# Altium footprint library PcbLib1.PcbLib: 58 footprints (part 1 of 4)
Each footprint in its own frame and in the unit in brackets; x right, y up, seen from the top. Pads: shape width x height; smd on the part's side, far side on the other; paste and mask are expansions set on the pad; w line width, h text height; cw(c..) or ccw(c..) is an arc to the next point about the centre after c.
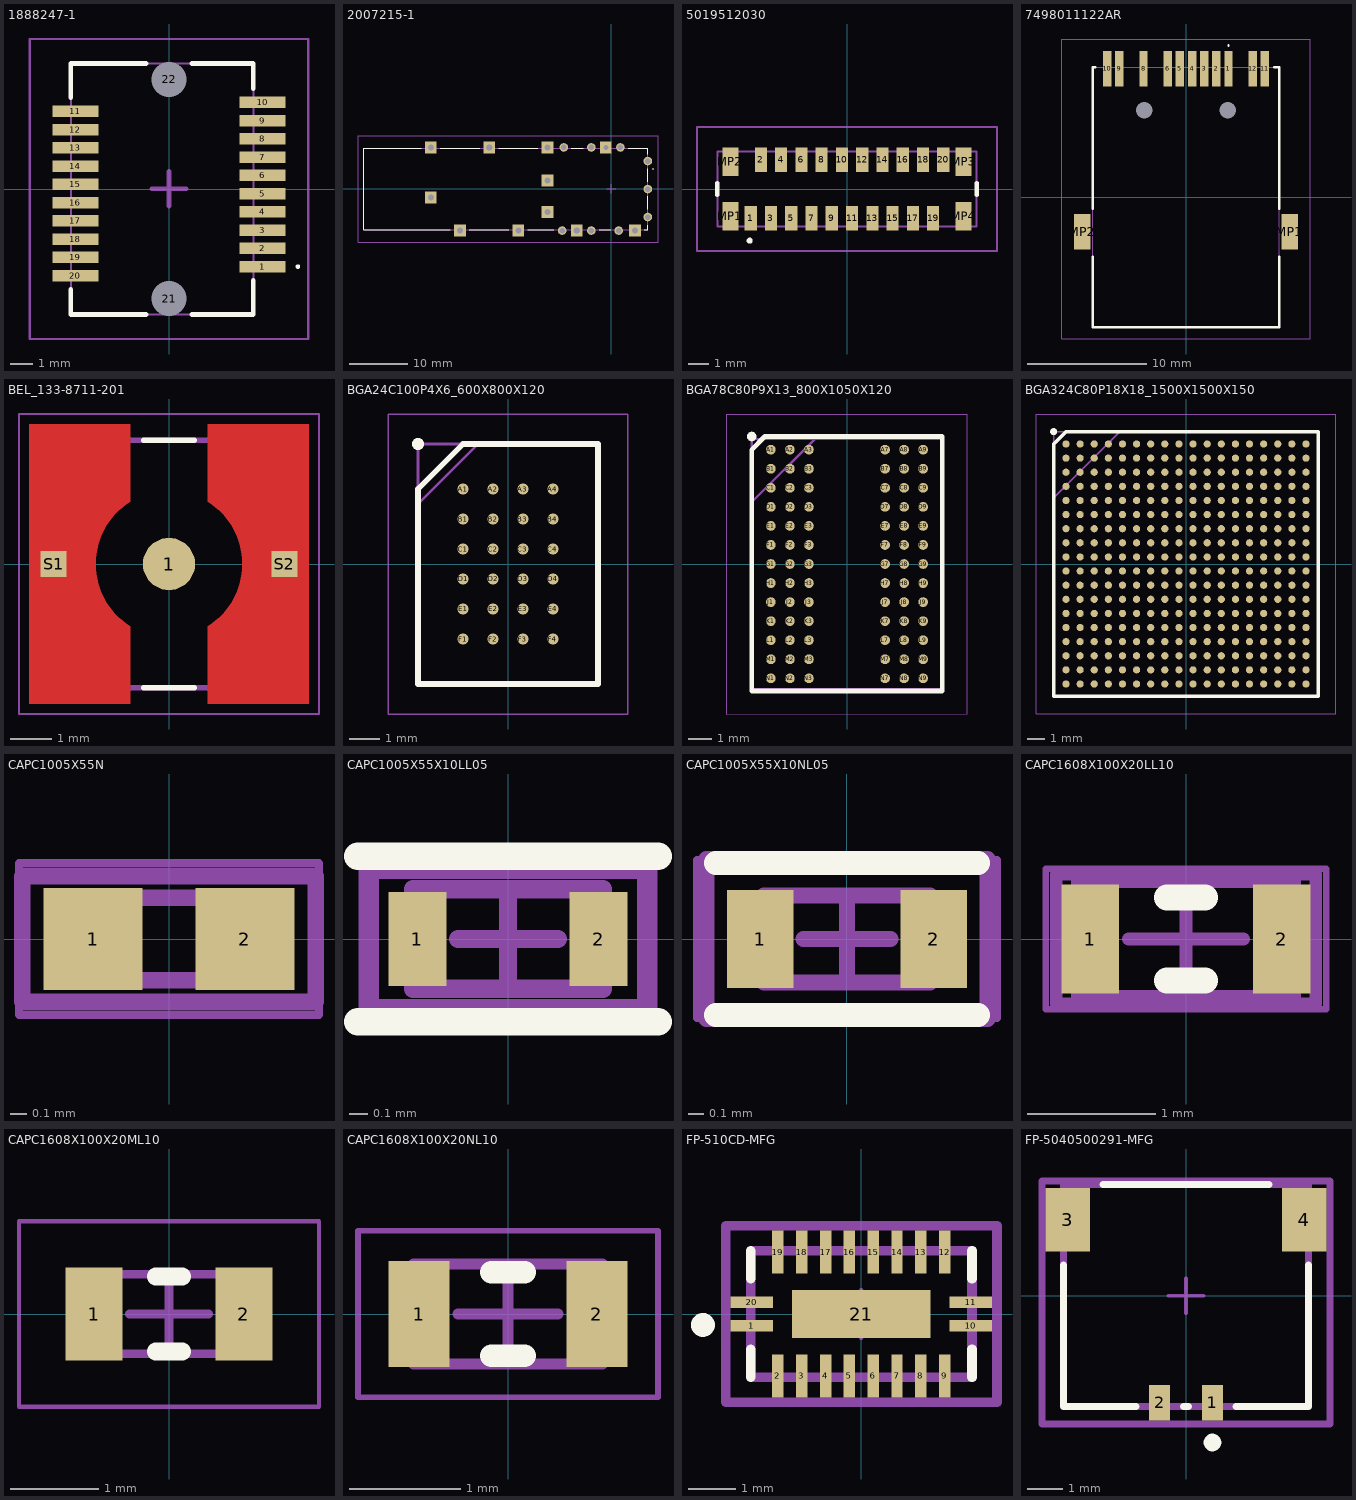
[diagram p0: the footprints below, top view; thin cyan lines are the x and y axes]

## 1888247-1 [mm]
pads (22):
  rect 2x0.5 smd: 1(4.1,-3.4) 2(4.1,-2.6) 3(4.1,-1.8) 4(4.1,-1) 5(4.1,-0.2) 6(4.1,0.6) 7(4.1,1.4) 8(4.1,2.2) 9(4.1,3) 10(4.1,3.8) 11(-4.1,3.4) 12(-4.1,2.6) 13(-4.1,1.8) 14(-4.1,1) 15(-4.1,0.2) 16(-4.1,-0.6) 17(-4.1,-1.4) 18(-4.1,-2.2) 19(-4.1,-3) 20(-4.1,-3.8)
  round 0.775 hole 1.55 unplated: 21(0,-4.8) 22(0,4.8)
Top Overlay:
  lines w0.1: 5.6,-3.4 cw(c5.65,-3.4) 5.7,-3.4 cw(c5.65,-3.4) 5.6,-3.4
  lines w0.2: -4.3,-4.4 -4.3,-5.5 -1,-5.5 ; -4.3,4 -4.3,5.5 -1,5.5 ; 1,-5.5 3.7,-5.5 3.7,-4 ; 1,5.5 3.7,5.5 3.7,4.4
Mechanical 13:
  lines w0.1: -4.3,-5.5 -4.3,5.5 3.7,5.5 3.7,-5.5 -4.3,-5.5
Mechanical 15:
  lines w0.1: -6.1,-6.575 -6.1,6.575 6.1,6.575 6.1,-6.575 -6.1,-6.575
Top Component Center:
  lines w0.2: -0.762,0.018 0,0.018 0.762,0.018 ; 0,-0.744 0,0.78
3D body "1888247-1.stp": height 5.19, standoff -0.81, extent -4.47,-5.5 4.53,5.5

## 2007215-1 [mm]
pads (20):
  rect 2x2 hole 1.05: MH1(-30.9,7.112) MH2(-30.9,-1.468) MH3(-25.9,-7.138) MH4(-15.9,-7.138) MH6(-5.9,-7.138) MH9(4.1,-7.138) MH17(-10.9,7.112) MH18(-20.9,7.112) MH19(-10.9,1.432) MH20(-10.9,-3.968)
  round 1.478 hole 0.95: MH5(-8.4,-7.138) MH7(-3.4,-7.138) MH8(1.3,-7.138) MH10(6.3,-4.818) MH11(6.3,-0.018) MH12(6.3,4.782) MH13(1.6,7.112) MH15(-3.4,7.112) MH16(-8.1,7.112)
  rect 2x2 hole 0.85: MH14(-0.9,7.112)
Top Overlay:
  lines w0.2: -42.4,-7.013 -27.55,-7.013 -42.4,-7.013 ; -42.4,-7.013 -42.4,6.987 ; -42.4,-7.013 -42.4,6.987 ; -42.4,6.987 -32.55,6.987 -42.4,6.987 ; 6.3,-7.013 5.7,-7.013 6.3,-7.013 ; 6.3,-7.013 6.3,-6.263 6.3,-7.013 ; 6.3,6.987 2.95,6.987 6.3,6.987 ; 6.3,6.987 6.3,5.987 6.3,6.987 ; 7.15,3.382 cw(c7.2,3.382) 7.25,3.382 ; 7.15,3.382 ccw(c7.2,3.382) 7.25,3.382 ; 7.15,3.382 cw(c7.2,3.382) 7.25,3.382 ; -29.3,6.987 -22.55,6.987 -29.3,6.987 ; -24.3,-7.013 -17.55,-7.013 -24.3,-7.013 ; -19.3,6.987 -12.55,6.987 -19.3,6.987 ; -14.3,-7.013 -9.8,-7.013 -14.3,-7.013 ; -6.8,6.987 -4.8,6.987 -6.8,6.987 ; -2.05,-7.013 -0.05,-7.013 -2.05,-7.013 ; 6.3,-3.513 6.3,-1.263 6.3,-3.513 ; 6.3,1.237 6.3,3.487 6.3,1.237
Mechanical 13:
  lines w0.1: -42.4,-7.013 6.3,-7.013 6.3,6.987 -42.4,6.987 -42.4,-7.013
Mechanical 15:
  lines w0.1: -43.4,-9.138 8.039,-9.138 8.039,9.112 -43.4,9.112 -43.4,-9.138
Top Component Center:
  lines w0.2: -0.762,0 0,0 0.762,0 ; 0,-0.762 0,0.762
3D body "2007215-1.stp": height 10.71, standoff -3.34, extent -42.5,-8.167 6.3,8.131

## 5019512030 [mm]
pads (24):
  rect 0.6x1.2 smd: 1(-4.75,-1.45) 2(-4.25,1.45) 3(-3.75,-1.45) 4(-3.25,1.45) 5(-2.75,-1.45) 6(-2.25,1.45) 7(-1.75,-1.45) 8(-1.25,1.45) 9(-0.75,-1.45) 10(-0.25,1.45) 11(0.25,-1.45) 12(0.75,1.45) 13(1.25,-1.45) 14(1.75,1.45) 15(2.25,-1.45) 16(2.75,1.45) 17(3.25,-1.45) 18(3.75,1.45) 19(4.25,-1.45) 20(4.75,1.45)
  rect 0.8x1.4 smd: MP1(-5.75,-1.35) MP2(-5.75,1.35) MP3(5.75,1.35) MP4(5.75,-1.35)
Top Overlay:
  lines w0.2: -6.4,-0.3 -6.4,0.3 ; 6.4,-0.3 6.4,0.3 ; -4.8,-2.6 ccw(c-4.8,-2.55) -4.8,-2.5 ; -4.8,-2.6 cw(c-4.8,-2.55) -4.8,-2.5 ; -4.8,-2.6 ccw(c-4.8,-2.55) -4.8,-2.5
Mechanical 13:
  lines w0.1: -6.4,-1.85 -6.4,1.85 6.4,1.85 6.4,-1.85 -6.4,-1.85
Mechanical 15:
  lines w0.1: -7.4,-3.05 -7.4,3.05 7.4,3.05 7.4,-3.05 -7.4,-3.05
3D body "5019512030_0.SLDPRT": height 4.6, standoff 0, extent -6.4,-1.85 6.4,2.249

## 7498011122AR [mm]
pads (15):
  rect 0.71x3 smd: 1(3.57,10.79) 2(2.55,10.79) 3(1.53,10.79) 4(0.51,10.79) 5(-0.51,10.79) 6(-1.53,10.79) 8(-3.57,10.79) 9(-5.61,10.79) 10(-6.63,10.79) 11(6.63,10.79) 12(5.61,10.79)
  round 0.7 hole 1.4 unplated: MH1(3.5,7.29) MH2(-3.5,7.29)
  rect 1.4x3 smd: MP1(8.725,-2.91) MP2(-8.725,-2.91)
Top Overlay:
  lines w0.1: 3.57,12.7 ccw(c3.57,12.75) 3.57,12.8 ; 3.57,12.7 cw(c3.57,12.75) 3.57,12.8 ; 3.57,12.7 ccw(c3.57,12.75) 3.57,12.8
  lines w0.2: -7.825,-5 -7.825,-10.92 7.825,-10.92 7.825,-5 ; -7.825,-1 -7.825,10.92 -7.6,10.92 ; 7.4,10.92 7.825,10.92 7.825,-1
Top Assembly:
  lines w0.1: -7.825,-10.92 7.825,-10.92 7.825,10.92 -7.825,10.92 -7.825,-10.92
  text ".Designator" at -1.905,6.853 h2
Mechanical 15:
  lines w0.1: -10.425,-11.92 10.425,-11.92 10.425,13.29 -10.425,13.29 -10.425,-11.92
3D body "7498011122AR.stp": height 10.15, standoff -3.15, extent -9.075,-10.92 9.075,11.155

## BEL_133-8711-201 [mil]
pads (3):
  round 50 smd: 1(0,0)
  rect 25x25 smd paste-39.37 mask+0: S1(-110,0) S2(110,0)
Top Layer:
  region: -37,59.4 -41.06,56.68 -44.78,53.79 -48.31,50.65 -51.62,47.28 -54.69,43.7 -57.51,39.92 -60.07,35.95 -62.36,31.82 -64.36,27.55 -66.07,23.15 -67.48,18.65 -68.59,14.06 -69.38,9.41 -69.86,4.72 -70.02,0 -69.86,-4.72 -69.38,-9.41 -68.59,-14.06 -67.48,-18.65 -66.07,-23.15 -64.36,-27.55 -62.36,-31.82 -60.07,-35.95 -57.51,-39.92 -54.69,-43.7 -51.62,-47.28 -48.31,-50.65 -44.78,-53.79 -41.06,-56.68 -37,-59.4 -37,-133 -133,-133 -133,133 -37,133
  region: 133,-133 37,-133 37,-59.4 41.06,-56.68 44.78,-53.79 48.31,-50.65 51.62,-47.28 54.69,-43.7 57.51,-39.92 60.07,-35.95 62.36,-31.82 64.36,-27.55 66.07,-23.15 67.48,-18.65 68.59,-14.06 69.38,-9.41 69.86,-4.72 70.02,0 69.86,4.72 69.38,9.41 68.59,14.06 67.48,18.65 66.07,23.15 64.36,27.55 62.36,31.82 60.07,35.95 57.51,39.92 54.69,43.7 51.62,47.28 48.31,50.65 44.78,53.79 41.06,56.68 37,59.4 37,133 133,133
Top Overlay:
  lines w5: -24,-118 24,-118 ; -24,118 24,118
Top Paste:
  region: -59.5,59.5 -120.5,59.5 -120.5,120.5 -59.5,120.5
  region: 120.5,59.5 59.5,59.5 59.5,120.5 120.5,120.5
  region: 120.5,-120.5 59.5,-120.5 59.5,-59.5 120.5,-59.5
  region: -59.5,-120.5 -120.5,-120.5 -120.5,-59.5 -59.5,-59.5
Top Solder:
  region: -33,57.25 -36.99,54.76 -40.72,52.05 -44.25,49.09 -47.57,45.88 -50.65,42.46 -53.49,38.82 -56.07,35 -58.38,31.01 -60.4,26.87 -62.12,22.59 -63.55,18.21 -64.66,13.73 -65.47,9.19 -65.95,4.61 -66.11,0 -65.95,-4.61 -65.47,-9.19 -64.66,-13.73 -63.55,-18.21 -62.12,-22.59 -60.4,-26.87 -58.38,-31.01 -56.07,-35 -53.49,-38.82 -50.65,-42.46 -47.57,-45.88 -44.25,-49.09 -40.72,-52.05 -36.99,-54.76 -33,-57.25 -33.06,-136.94 -136.94,-136.94 -136.94,136.94 -33.06,136.94
  region: 136.94,-136.94 33.06,-136.94 33,-57.25 36.99,-54.76 40.72,-52.05 44.25,-49.09 47.57,-45.88 50.65,-42.46 53.49,-38.82 56.07,-35 58.38,-31.01 60.4,-26.87 62.12,-22.59 63.55,-18.21 64.66,-13.73 65.47,-9.19 65.95,-4.61 66.11,0 65.95,4.61 65.47,9.19 64.66,13.73 63.55,18.21 62.12,22.59 60.4,26.87 58.38,31.01 56.07,35 53.49,38.82 50.65,42.46 47.57,45.88 44.25,49.09 40.72,52.05 36.99,54.76 33,57.25 33.06,136.94 136.94,136.94
Mechanical 13:
  lines w5: -118,-118 118,-118 118,118 -118,118 -118,-118
Mechanical 15:
  lines w1.97: -143,-143 143,-143 143,143 -143,143 -143,-143
3D body "step_temp.STEP": height 244.09, standoff 0, extent -118.11,-118.11 118.11,118.11

## BGA24C100P4X6_600X800X120 [mm]
pads (24):
  round 0.37 smd: A1(-1.5,2.5) A2(-0.5,2.5) A3(0.5,2.5) A4(1.5,2.5) B1(-1.5,1.5) B2(-0.5,1.5) B3(0.5,1.5) B4(1.5,1.5) C1(-1.5,0.5) C2(-0.5,0.5) C3(0.5,0.5) C4(1.5,0.5) D1(-1.5,-0.5) D2(-0.5,-0.5) D3(0.5,-0.5) D4(1.5,-0.5) E1(-1.5,-1.5) E2(-0.5,-1.5) E3(0.5,-1.5) E4(1.5,-1.5) F1(-1.5,-2.5) F2(-0.5,-2.5) F3(0.5,-2.5) F4(1.5,-2.5)
Top Overlay:
  circle w0.2: c-3,4 r0.1
  lines w0.2: -3,-4 -3,2.5 -1.5,4 3,4 3,-4 -3,-4
Top Assembly:
  lines w0.1: -3,2 -1,4 ; -3,-4 3,-4 3,4 -3,4 -3,-4
  text ".Designator" at -1.905,-0.513 h2
Mechanical 15:
  lines w0.05: -4,-5 4,-5 4,5 -4,5 -4,-5
3D body "S25FL256SAGBHI200.stp": height 1.2, standoff 0, extent -3,-4 3,4

## BGA78C80P9X13_800X1050X120 [mm]
pads (78):
  round 0.41 smd: A1(-3.2,4.8) A2(-2.4,4.8) A3(-1.6,4.8) A7(1.6,4.8) A8(2.4,4.8) A9(3.2,4.8) B1(-3.2,4) B2(-2.4,4) B3(-1.6,4) B7(1.6,4) B8(2.4,4) B9(3.2,4) C1(-3.2,3.2) C2(-2.4,3.2) C3(-1.6,3.2) C7(1.6,3.2) C8(2.4,3.2) C9(3.2,3.2) D1(-3.2,2.4) D2(-2.4,2.4) D3(-1.6,2.4) D7(1.6,2.4) D8(2.4,2.4) D9(3.2,2.4) E1(-3.2,1.6) E2(-2.4,1.6) E3(-1.6,1.6) E7(1.6,1.6) E8(2.4,1.6) E9(3.2,1.6) F1(-3.2,0.8) F2(-2.4,0.8) F3(-1.6,0.8) F7(1.6,0.8) F8(2.4,0.8) F9(3.2,0.8) G1(-3.2,0) G2(-2.4,0) G3(-1.6,0) G7(1.6,0) G8(2.4,0) G9(3.2,0) H1(-3.2,-0.8) H2(-2.4,-0.8) H3(-1.6,-0.8) H7(1.6,-0.8) H8(2.4,-0.8) H9(3.2,-0.8) J1(-3.2,-1.6) J2(-2.4,-1.6) J3(-1.6,-1.6) J7(1.6,-1.6) J8(2.4,-1.6) J9(3.2,-1.6) K1(-3.2,-2.4) K2(-2.4,-2.4) K3(-1.6,-2.4) K7(1.6,-2.4) K8(2.4,-2.4) K9(3.2,-2.4) L1(-3.2,-3.2) L2(-2.4,-3.2) L3(-1.6,-3.2) L7(1.6,-3.2) L8(2.4,-3.2) L9(3.2,-3.2) M1(-3.2,-4) M2(-2.4,-4) M3(-1.6,-4) M7(1.6,-4) M8(2.4,-4) M9(3.2,-4) N1(-3.2,-4.8) N2(-2.4,-4.8) N3(-1.6,-4.8) N7(1.6,-4.8) N8(2.4,-4.8) N9(3.2,-4.8)
Top Overlay:
  circle w0.2: c-4,5.355 r0.1
  lines w0.2: 4,5.334 4,-5.334 -4,-5.334 -4,4.8 -3.445,5.355 4,5.355
Top Assembly:
  lines w0.1: -4,2.6 -1.35,5.25 ; -4,-5.25 4,-5.25 4,5.25 -4,5.25 -4,-5.25
  text ".Designator" at -2.54,-0.005 h2
Mechanical 15:
  lines w0.05: -5.05,-6.3 5.05,-6.3 5.05,6.3 -5.05,6.3 -5.05,-6.3
3D body "IS43TR85120BL-125KBLI-TR.stp": height 1.2, standoff 0, extent -4,-5.25 4,5.25

## BGA324C80P18X18_1500X1500X150 [mm]
pads (324):
  round 0.41 smd: A1(-6.8,6.8) A2(-6,6.8) A3(-5.2,6.8) A4(-4.4,6.8) A5(-3.6,6.8) A6(-2.8,6.8) A7(-2,6.8) A8(-1.2,6.8) A9(-0.4,6.8) A10(0.4,6.8) A11(1.2,6.8) A12(2,6.8) A13(2.8,6.8) A14(3.6,6.8) A15(4.4,6.8) A16(5.2,6.8) A17(6,6.8) A18(6.8,6.8) B1(-6.8,6) B2(-6,6) B3(-5.2,6) B4(-4.4,6) B5(-3.6,6) B6(-2.8,6) B7(-2,6) B8(-1.2,6) B9(-0.4,6) B10(0.4,6) B11(1.2,6) B12(2,6) B13(2.8,6) B14(3.6,6) B15(4.4,6) B16(5.2,6) B17(6,6) B18(6.8,6) C1(-6.8,5.2) C2(-6,5.2) C3(-5.2,5.2) C4(-4.4,5.2) C5(-3.6,5.2) C6(-2.8,5.2) C7(-2,5.2) C8(-1.2,5.2) C9(-0.4,5.2) C10(0.4,5.2) C11(1.2,5.2) C12(2,5.2) C13(2.8,5.2) C14(3.6,5.2) C15(4.4,5.2) C16(5.2,5.2) C17(6,5.2) C18(6.8,5.2) D1(-6.8,4.4) D2(-6,4.4) D3(-5.2,4.4) D4(-4.4,4.4) D5(-3.6,4.4) D6(-2.8,4.4) D7(-2,4.4) D8(-1.2,4.4) D9(-0.4,4.4) D10(0.4,4.4) D11(1.2,4.4) D12(2,4.4) D13(2.8,4.4) D14(3.6,4.4) D15(4.4,4.4) D16(5.2,4.4) D17(6,4.4) D18(6.8,4.4) E1(-6.8,3.6) E2(-6,3.6) E3(-5.2,3.6) E4(-4.4,3.6) E5(-3.6,3.6) E6(-2.8,3.6) E7(-2,3.6) E8(-1.2,3.6) E9(-0.4,3.6) E10(0.4,3.6) E11(1.2,3.6) E12(2,3.6) E13(2.8,3.6) E14(3.6,3.6) E15(4.4,3.6) E16(5.2,3.6) E17(6,3.6) E18(6.8,3.6) F1(-6.8,2.8) F2(-6,2.8) F3(-5.2,2.8) F4(-4.4,2.8) F5(-3.6,2.8) F6(-2.8,2.8) F7(-2,2.8) F8(-1.2,2.8) F9(-0.4,2.8) F10(0.4,2.8) F11(1.2,2.8) F12(2,2.8) F13(2.8,2.8) F14(3.6,2.8) F15(4.4,2.8) F16(5.2,2.8) F17(6,2.8) F18(6.8,2.8) G1(-6.8,2) G2(-6,2) G3(-5.2,2) G4(-4.4,2) G5(-3.6,2) G6(-2.8,2) G7(-2,2) G8(-1.2,2) G9(-0.4,2) G10(0.4,2) G11(1.2,2) G12(2,2) G13(2.8,2) G14(3.6,2) G15(4.4,2) G16(5.2,2) G17(6,2) G18(6.8,2) H1(-6.8,1.2) H2(-6,1.2) H3(-5.2,1.2) H4(-4.4,1.2) H5(-3.6,1.2) H6(-2.8,1.2) H7(-2,1.2) H8(-1.2,1.2) H9(-0.4,1.2) H10(0.4,1.2) H11(1.2,1.2) H12(2,1.2) H13(2.8,1.2) H14(3.6,1.2) H15(4.4,1.2) H16(5.2,1.2) H17(6,1.2) H18(6.8,1.2) J1(-6.8,0.4) J2(-6,0.4) J3(-5.2,0.4) J4(-4.4,0.4) J5(-3.6,0.4) J6(-2.8,0.4) J7(-2,0.4) J8(-1.2,0.4) J9(-0.4,0.4) J10(0.4,0.4) J11(1.2,0.4) J12(2,0.4) J13(2.8,0.4) J14(3.6,0.4) J15(4.4,0.4) J16(5.2,0.4) J17(6,0.4) J18(6.8,0.4) K1(-6.8,-0.4) K2(-6,-0.4) K3(-5.2,-0.4) K4(-4.4,-0.4) K5(-3.6,-0.4) K6(-2.8,-0.4) K7(-2,-0.4) K8(-1.2,-0.4) K9(-0.4,-0.4) K10(0.4,-0.4) K11(1.2,-0.4) K12(2,-0.4) K13(2.8,-0.4) K14(3.6,-0.4) K15(4.4,-0.4) K16(5.2,-0.4) K17(6,-0.4) K18(6.8,-0.4) L1(-6.8,-1.2) L2(-6,-1.2) L3(-5.2,-1.2) L4(-4.4,-1.2) L5(-3.6,-1.2) L6(-2.8,-1.2) L7(-2,-1.2) L8(-1.2,-1.2) L9(-0.4,-1.2) L10(0.4,-1.2) L11(1.2,-1.2) L12(2,-1.2) L13(2.8,-1.2) L14(3.6,-1.2) L15(4.4,-1.2) L16(5.2,-1.2) L17(6,-1.2) L18(6.8,-1.2) M1(-6.8,-2) M2(-6,-2) M3(-5.2,-2) M4(-4.4,-2) M5(-3.6,-2) M6(-2.8,-2) M7(-2,-2) M8(-1.2,-2) M9(-0.4,-2) M10(0.4,-2) M11(1.2,-2) M12(2,-2) M13(2.8,-2) M14(3.6,-2) M15(4.4,-2) M16(5.2,-2) M17(6,-2) M18(6.8,-2) N1(-6.8,-2.8) N2(-6,-2.8) N3(-5.2,-2.8) N4(-4.4,-2.8) N5(-3.6,-2.8) N6(-2.8,-2.8) N7(-2,-2.8) N8(-1.2,-2.8) N9(-0.4,-2.8) N10(0.4,-2.8) N11(1.2,-2.8) N12(2,-2.8) N13(2.8,-2.8) N14(3.6,-2.8) N15(4.4,-2.8) N16(5.2,-2.8) N17(6,-2.8) N18(6.8,-2.8) P1(-6.8,-3.6) P2(-6,-3.6) P3(-5.2,-3.6) P4(-4.4,-3.6) P5(-3.6,-3.6) P6(-2.8,-3.6) P7(-2,-3.6) P8(-1.2,-3.6) P9(-0.4,-3.6) P10(0.4,-3.6) P11(1.2,-3.6) P12(2,-3.6) P13(2.8,-3.6) P14(3.6,-3.6) P15(4.4,-3.6) P16(5.2,-3.6) P17(6,-3.6) P18(6.8,-3.6) R1(-6.8,-4.4) R2(-6,-4.4) R3(-5.2,-4.4) R4(-4.4,-4.4) R5(-3.6,-4.4) R6(-2.8,-4.4) R7(-2,-4.4) R8(-1.2,-4.4) R9(-0.4,-4.4) R10(0.4,-4.4) R11(1.2,-4.4) R12(2,-4.4) R13(2.8,-4.4) R14(3.6,-4.4) R15(4.4,-4.4) R16(5.2,-4.4) R17(6,-4.4) R18(6.8,-4.4) T1(-6.8,-5.2) T2(-6,-5.2) T3(-5.2,-5.2) T4(-4.4,-5.2) T5(-3.6,-5.2) T6(-2.8,-5.2) T7(-2,-5.2) T8(-1.2,-5.2) T9(-0.4,-5.2) T10(0.4,-5.2) T11(1.2,-5.2) T12(2,-5.2) T13(2.8,-5.2) T14(3.6,-5.2) T15(4.4,-5.2) T16(5.2,-5.2) T17(6,-5.2) T18(6.8,-5.2) U1(-6.8,-6) U2(-6,-6) U3(-5.2,-6) U4(-4.4,-6) U5(-3.6,-6) U6(-2.8,-6) U7(-2,-6) U8(-1.2,-6) U9(-0.4,-6) U10(0.4,-6) U11(1.2,-6) U12(2,-6) U13(2.8,-6) U14(3.6,-6) U15(4.4,-6) U16(5.2,-6) U17(6,-6) U18(6.8,-6) V1(-6.8,-6.8) V2(-6,-6.8) V3(-5.2,-6.8) V4(-4.4,-6.8) V5(-3.6,-6.8) V6(-2.8,-6.8) V7(-2,-6.8) V8(-1.2,-6.8) V9(-0.4,-6.8) V10(0.4,-6.8) V11(1.2,-6.8) V12(2,-6.8) V13(2.8,-6.8) V14(3.6,-6.8) V15(4.4,-6.8) V16(5.2,-6.8) V17(6,-6.8) V18(6.8,-6.8)
Top Overlay:
  circle w0.2: c-7.5,7.5 r0.1
  lines w0.2: -7.5,-7.5 7.5,-7.5 7.5,7.5 -6.8,7.5 -7.5,6.8 -7.5,-7.5
Top Assembly:
  lines w0.1: -7.5,3.75 -3.75,7.5 ; -7.5,-7.5 -7.5,7.5 7.5,7.5 7.5,-7.5 -7.5,-7.5
  text ".Designator" at -2.159,-0.005 h2
Mechanical 15:
  lines w0.05: -8.5,-8.5 8.5,-8.5 8.5,8.5 -8.5,8.5 -8.5,-8.5
3D body "XC7A35T-2CSG324C.stp": height 1.5, standoff 0, extent -7.5,-7.5 7.5,7.5

## CAPC1005X55N [mm]
pads (2):
  rect 0.6x0.62 smd: 1(-0.46,0) 2(0.46,0)
Top Assembly:
  lines w0.1: -0.889,-0.381 0.889,-0.381 0.889,0.381 -0.889,0.381 -0.889,-0.381
  text ".Designator" at -0.762,-0.25 h0.7
Mechanical 13:
  lines w0.1: -0.5,-0.25 0.5,-0.25 0.5,0.25 -0.5,0.25 -0.5,-0.25
Mechanical 15:
  lines w0.05: -0.91,-0.46 0.91,-0.46 0.91,0.46 -0.91,0.46 -0.91,-0.46
3D body "CC0402JRNPO9BN101.stp": height 0.55, standoff 0, extent -0.5,-0.25 0.5,0.25

## CAPC1005X55X10LL05 [mm] "Chip Capacitor, 2-Leads, Body 1.05x0.55mm, IPC High Density"
height 0.55
pads (2):
  rect 0.32x0.52 smd: 1(-0.5,0) 2(0.5,0)
Top Overlay:
  lines w0.152: -0.829,-0.457 0.829,-0.457 ; -0.829,0.457 0.829,0.457
Top Assembly:
  lines w0.1: -0.762,-0.381 0.762,-0.381 0.762,0.381 -0.762,0.381 -0.762,-0.381
  text ".Designator" at -0.635,-0.25 h0.7
Mechanical 13:
  lines w0.1: -0.525,-0.275 0.525,-0.275 0.525,0.275 -0.525,0.275 -0.525,-0.275
Mechanical 15:
  lines w0.05: -0.8,-0.4 0.8,-0.4 0.8,0.4 -0.8,0.4 -0.8,-0.4
  lines w0.1: -0.275,0 0.275,0 ; 0,-0.275 0,0.275
3D body "CAPC1005X06L.step": height 0.55, standoff 0, extent -0.525,-0.275 0.525,0.275

## CAPC1005X55X10NL05 [mm] "Chip Capacitor, 2-Leads, Body 1.05x0.55mm, IPC Medium Density"
height 0.55
pads (2):
  rect 0.42x0.62 smd: 1(-0.55,0) 2(0.55,0)
Top Overlay:
  lines w0.152: -0.829,-0.483 0.829,-0.483 ; -0.829,0.483 0.829,0.483
Top Assembly:
  lines w0.1: -0.889,-0.508 -0.889,0.508 0.889,0.508 0.889,-0.508 -0.889,-0.508
  text ".Designator" at -0.762,-0.32 h1
Mechanical 13:
  lines w0.1: -0.525,-0.275 0.525,-0.275 0.525,0.275 -0.525,0.275 -0.525,-0.275
Mechanical 15:
  lines w0.05: -0.95,-0.5 0.95,-0.5 0.95,0.5 -0.95,0.5 -0.95,-0.5
  lines w0.1: -0.275,0 0.275,0 ; 0,-0.275 0,0.275
3D body "CAPC1005X06N.step": height 0.55, standoff 0, extent -0.525,-0.275 0.525,0.275

## CAPC1608X100X20LL10 [mm] "Chip Capacitor, 2-Leads, Body 1.70x0.90mm, IPC High Density"
height 1
pads (2):
  rect 0.45x0.85 smd: 1(-0.75,0) 2(0.75,0)
Top Overlay:
  lines w0.2: -0.15,-0.325 0.15,-0.325 ; -0.15,0.325 0.15,0.325
Top Assembly:
  lines w0.1: -1.016,-0.508 -1.016,0.508 1.016,0.508 1.016,-0.508 -1.016,-0.508
  text ".Designator" at -0.889,-0.32 h1
Mechanical 13:
  lines w0.1: -0.85,-0.45 -0.85,0.45 0.85,0.45 0.85,-0.45 -0.85,-0.45
Mechanical 15:
  lines w0.05: -1.1,-0.55 -1.1,0.55 1.1,0.55 1.1,-0.55 -1.1,-0.55
  lines w0.1: -0.45,0 0.45,0 ; 0,-0.45 0,0.45
3D body: height 1, standoff 0, extent -0.65,-0.45 0.65,0.45
3D body: height 1, standoff 0, extent -0.85,-0.45 -0.65,0.45
3D body: height 1, standoff 0, extent 0.65,-0.45 0.85,0.45

## CAPC1608X100X20ML10 [mm] "Chip Capacitor, 2-Leads, Body 1.70x0.90mm, IPC Low Density"
height 1
pads (2):
  rect 0.65x1.05 smd: 1(-0.85,0) 2(0.85,0)
Top Overlay:
  lines w0.2: -0.15,-0.425 0.15,-0.425 ; -0.15,0.425 0.15,0.425
Mechanical 13:
  lines w0.1: -0.85,-0.45 -0.85,0.45 0.85,0.45 0.85,-0.45 -0.85,-0.45
Mechanical 15:
  lines w0.05: -1.7,-1.05 -1.7,1.05 1.7,1.05 1.7,-1.05 -1.7,-1.05
  lines w0.1: -0.45,0 0.45,0 ; 0,-0.45 0,0.45
3D body: height 1, standoff 0, extent -0.65,-0.45 0.65,0.45
3D body: height 1, standoff 0, extent -0.85,-0.45 -0.65,0.45
3D body: height 1, standoff 0, extent 0.65,-0.45 0.85,0.45

## CAPC1608X100X20NL10 [mm] "Chip Capacitor, 2-Leads, Body 1.70x0.90mm, IPC Medium Density"
height 1
pads (2):
  rect 0.55x0.95 smd: 1(-0.8,0) 2(0.8,0)
Top Overlay:
  lines w0.2: -0.15,-0.375 0.15,-0.375 ; -0.15,0.375 0.15,0.375
Mechanical 13:
  lines w0.1: -0.85,-0.45 0.85,-0.45 0.85,0.45 -0.85,0.45 -0.85,-0.45
Mechanical 15:
  lines w0.05: -1.35,-0.75 1.35,-0.75 1.35,0.75 -1.35,0.75 -1.35,-0.75
  lines w0.1: -0.45,0 0.45,0 ; 0,-0.45 0,0.45
3D body: height 1, standoff 0, extent 0.65,-0.45 0.85,0.45
3D body: height 1, standoff 0, extent -0.85,-0.45 -0.65,0.45
3D body: height 1, standoff 0, extent -0.65,-0.45 0.65,0.45

## FP-510CD-MFG [mm]
pads (21):
  rect 0.9x0.24 smd paste+0 mask+0: 1(-2.3,-0.25) 10(2.3,-0.25) 11(2.3,0.25) 20(-2.3,0.25)
  rect 0.24x0.9 smd paste+0 mask+0: 2(-1.75,-1.3) 3(-1.25,-1.3) 4(-0.75,-1.3) 5(-0.25,-1.3) 6(0.25,-1.3) 7(0.75,-1.3) 8(1.25,-1.3) 9(1.75,-1.3) 12(1.75,1.3) 13(1.25,1.3) 14(0.75,1.3) 15(0.25,1.3) 16(-0.25,1.3) 17(-0.75,1.3) 18(-1.25,1.3) 19(-1.75,1.3)
  rect 2.9x1 smd paste+0 mask+0: 21(0,0)
Top Overlay:
  circle w0.25: c-3.325,-0.23 r0.125
  lines w0.2: -2.325,-1.325 -2.325,-0.745 ; -2.325,0.745 -2.325,1.325 ; 2.325,-1.325 2.325,-0.745 ; 2.325,0.745 2.325,1.325
Top 3D Body:
  lines w0.2: -2.325,-1.325 -2.325,1.325 2.325,1.325 2.325,-1.325 -2.325,-1.325
Top Courtyard:
  lines w0.2: -2.85,-1.85 -2.85,1.85 2.85,1.85 2.85,-1.85 -2.85,-1.85
Top Assembly:
  lines w0.1: -2.85,-1.85 -2.85,1.85 2.85,1.85 2.85,-1.85 -2.85,-1.85
  text "1" at -2.032,-0.381 h1
  text ".Designator" at -2.159,0.95 h1
Top Component Center:
  lines w0.1: -0.5,0 0.5,0 ; 0,-0.5 0,0.5
3D body "IC_ON_Semiconductor_FXLA108BQX_eec.STEP": height 0.25, standoff 0, extent -2.85,-1.85 2.85,1.85

## FP-5040500291-MFG [mm]
pads (4):
  rect 0.6x1 smd paste+0 mask+0: 1(0.75,-3.04) 2(-0.75,-3.04)
  rect 1.25x1.8 smd paste-2539.97 mask+0: 3(-3.355,2.15) 4(3.355,2.15)
Top Overlay:
  circle w0.25: c0.75,-4.165 r0.125
  lines w0.2: -3.475,0.875 -3.475,-3.15 -1.425,-3.15 ; -2.355,3.15 2.355,3.15 ; -0.075,-3.15 0.075,-3.15 ; 1.425,-3.15 3.475,-3.15 3.475,0.875
Top 3D Body:
  lines w0.2: -3.475,-3.15 -3.475,3.15 3.475,3.15 3.475,-3.15 -3.475,-3.15
Top Courtyard:
  lines w0.2: -4.08,-3.64 -4.08,3.25 4.08,3.25 4.08,-3.64 -4.08,-3.64
Top Assembly:
  lines w0.1: -4.08,-3.64 -4.08,3.25 4.08,3.25 4.08,-3.64 -4.08,-3.64
  text ".Designator" at -2.413,-0.513 h2
Top Component Center:
  lines w0.1: -0.5,0 0.5,0 ; 0,-0.5 0,0.5
3D body "Conn_Molex_5040500291_eec.STEP": height 0.25, standoff 0, extent -4.08,-3.64 4.08,3.25